# Altium schematic symbol library MCP1703T-3302ECB.SchLib: 2 symbols
Pins are listed as number, name and electrical type; pins without a type are passive.

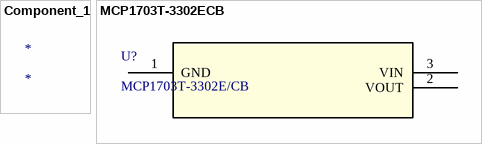
[diagram p0: symbols Component_1 to MCP1703T-3302ECB]

## Component_1
designator *

## MCP1703T-3302ECB
designator U?, comment MCP1703T-3302E/CB
No Description Available; Manufacturer_Name: Microchip; Copyright: Copyright (C) 2025 Ultra Librarian. All rights reserved.; Manufacturer_Part_Number: MCP1703T-3302E/CB; RefDes: RefDes; Type: Type
footprint SOT-23A_MC_MCH
pins: 1 GND, 2 VOUT, 3 VIN